# EAGLE library part ETHERNET_HAT (library Labops_Lib_AH)
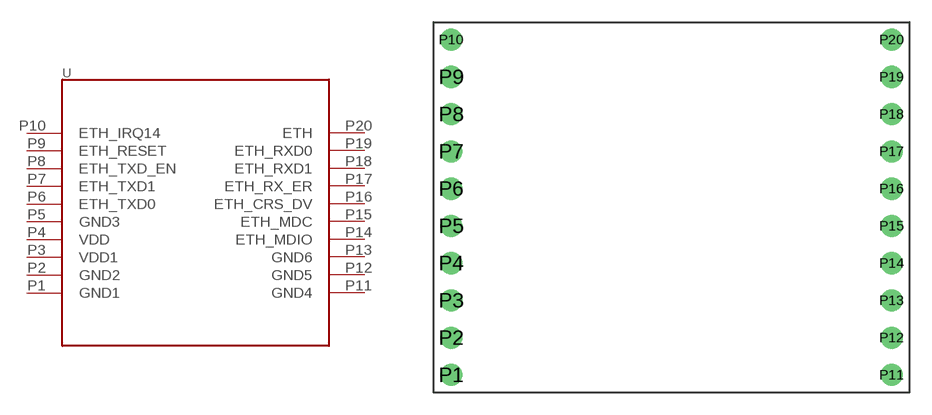
[diagram p30: symbol with the pads of ETHERNET_HAT; footprint ETHERNET_HAT]

Designator prefix U

## ETHERNET_HAT  [ETHERNET_HAT]
P1  GND1
P2  GND2
P3  VDD1
P4  VDD
P5  GND3
P6  ETH_TXD0
P7  ETH_TXD1
P8  ETH_TXD_EN
P9  ETH_RESET
P10  ETH_IRQ14
P11  GND4
P12  GND5
P13  GND6
P14  ETH_MDIO
P15  ETH_MDC
P16  ETH_CRS_DV
P17  ETH_RX_ER
P18  ETH_RXD1
P19  ETH_RXD0
P20  ETH

## Footprint ETHERNET_HAT (pad centres in mm)
drill 1: P1 -15.3,-10.96; P2 -15.3,-8.42; P3 -15.3,-5.88; P4 -15.3,-3.34; P5 -15.3,-0.8; P6 -15.3,1.74; P7 -15.3,4.28; P8 -15.3,6.82; P9 -15.3,9.36; P10 -15.3,11.9; P11 14.7,-10.96; P12 14.7,-8.42; P13 14.7,-5.88; P14 14.7,-3.34; P15 14.7,-0.8; P16 14.7,1.74; P17 14.7,4.28; P18 14.7,6.82; P19 14.7,9.36; P20 14.7,11.9